# EAGLE library part EPF10K200-BGA672 (library altera)
EPF10K200 FLEX 10K family
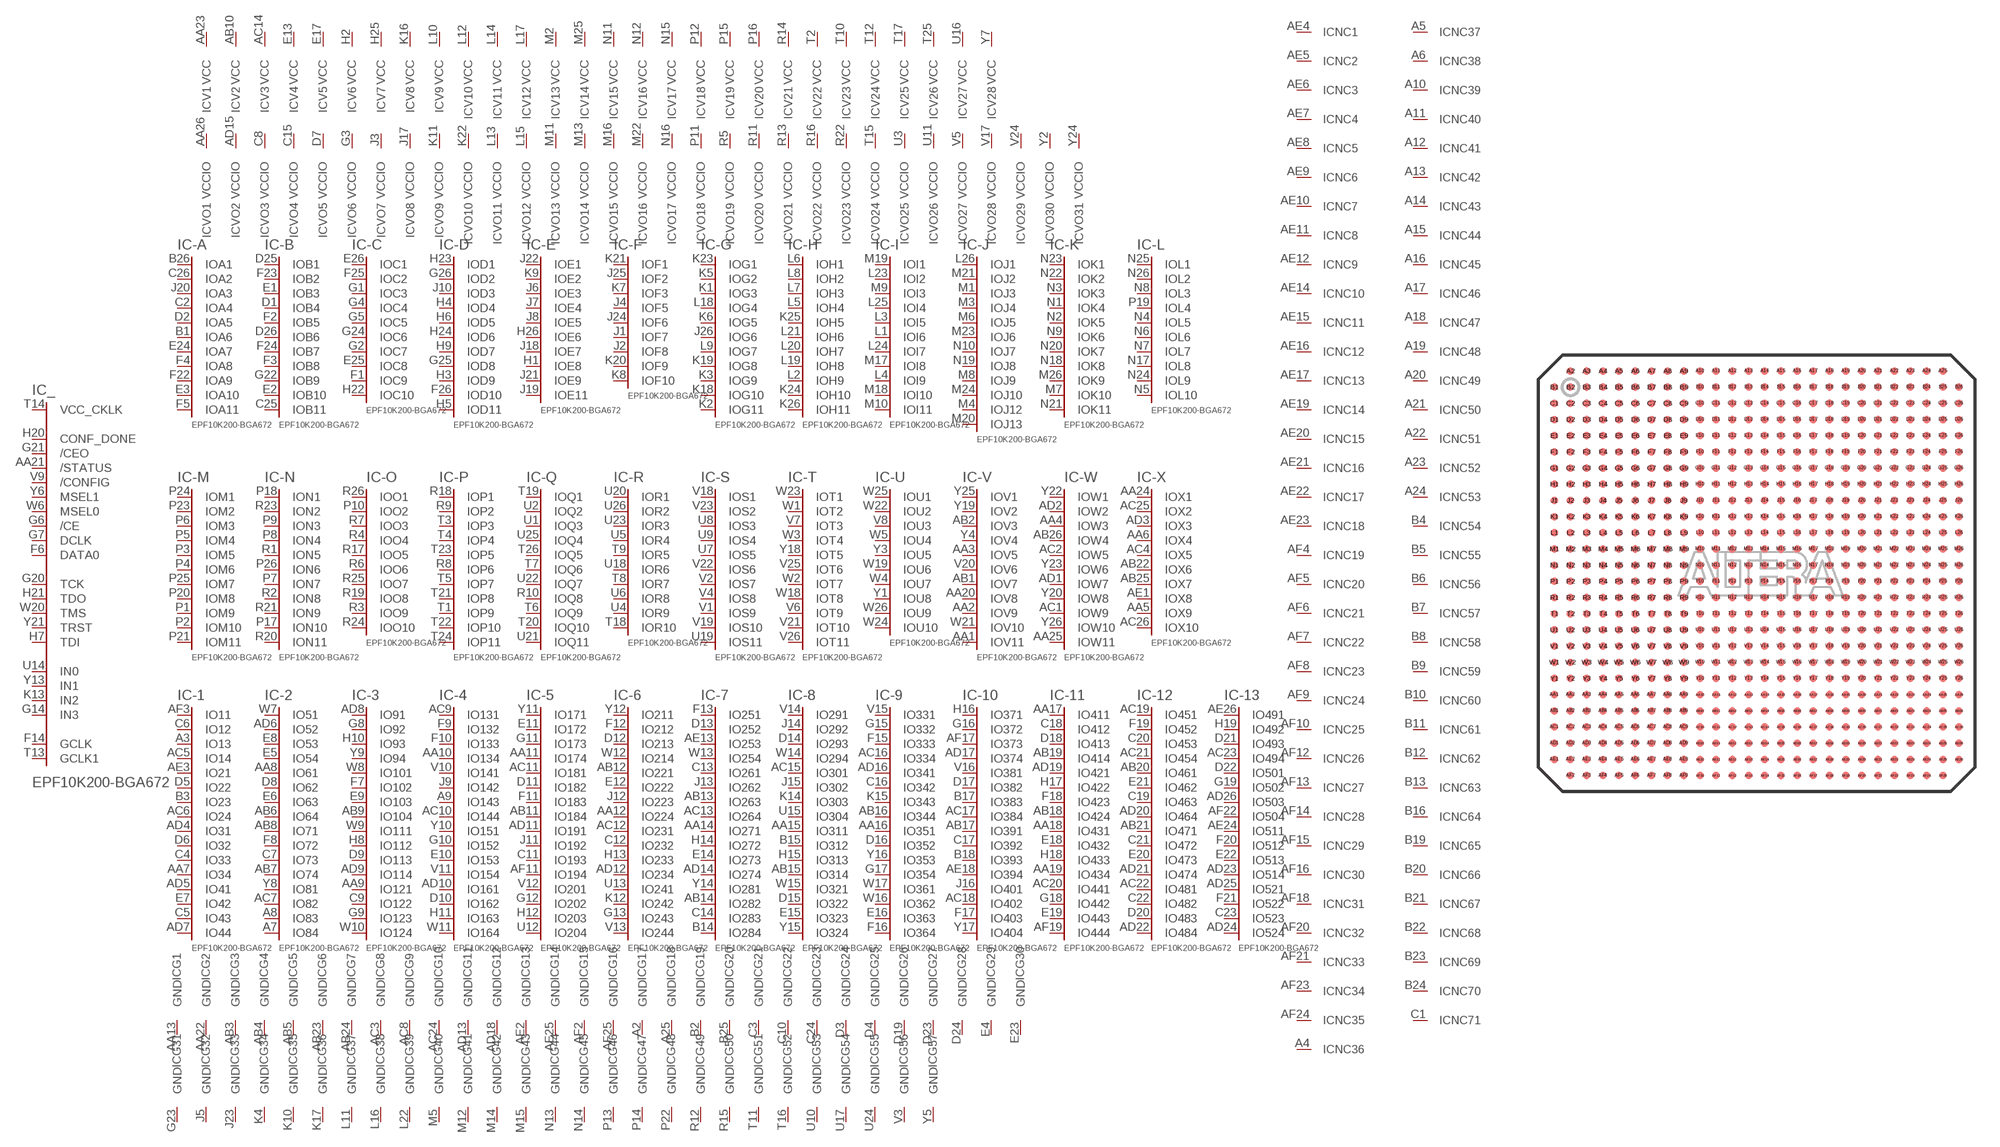
[diagram p34: symbol with the pads of FBGA672; footprint FBGA672]

Designator prefix IC; gates _=K200-CTR -A=A11-672 -B=B11-672 -C=C10-672 -D=D11-672 -E=E11-672 -F=F10-672 -G=G11-672 -H=H11-672 -I=I11-672 -J=J13-672 -K=K11-672 -L=L10-672 -M=M11-672 -N=N11-672 -O=O10-672 -P=P11-672 -Q=Q11-672 -R=R10-672 -S=S11-672 -T=T11-672 -U=U10-672 -V=V11-672 -W=W11-672 -X=X10-672 -1=IO44 -2=IO84 -3=IO124 -4=IO164 -5=IO204 -6=IO244 -7=IO284 -8=IO324 -9=IO364 -10=IO404 -11=IO444 -12=IO484 -13=IO524 G1=GND G2=GND G3=GND G4=GND G5=GND G6=GND G7=GND G8=GND G9=GND G10=GND G11=GND G12=GND G13=GND G14=GND G15=GND G16=GND G17=GND G18=GND G19=GND G20=GND G21=GND G22=GND G23=GND G24=GND G25=GND G26=GND G27=GND G28=GND G29=GND G30=GND G31=GND G32=GND G33=GND G34=GND G35=GND G36=GND G37=GND G38=GND G39=GND G40=GND G41=GND G42=GND G43=GND G44=GND G45=GND G46=GND G47=GND G48=GND G49=GND G50=GND G51=GND G52=GND G53=GND G54=GND G55=GND G56=GND G57=GND NC1=NC NC2=NC NC3=NC NC4=NC NC5=NC NC6=NC NC7=NC NC8=NC NC9=NC NC10=NC NC11=NC NC12=NC NC13=NC NC14=NC NC15=NC NC16=NC NC17=NC NC18=NC NC19=NC NC20=NC NC21=NC NC22=NC NC23=NC NC24=NC NC25=NC NC26=NC NC27=NC NC28=NC NC29=NC NC30=NC NC31=NC NC32=NC NC33=NC NC34=NC NC35=NC NC36=NC NC37=NC NC38=NC NC39=NC NC40=NC NC41=NC NC42=NC NC43=NC NC44=NC NC45=NC NC46=NC NC47=NC NC48=NC NC49=NC NC50=NC NC51=NC NC52=NC NC53=NC NC54=NC NC55=NC NC56=NC NC57=NC NC58=NC NC59=NC NC60=NC NC61=NC NC62=NC NC63=NC NC64=NC NC65=NC NC66=NC NC67=NC NC68=NC NC69=NC NC70=NC NC71=NC V1=VCCINT V2=VCCINT V3=VCCINT V4=VCCINT V5=VCCINT V6=VCCINT V7=VCCINT V8=VCCINT V9=VCCINT V10=VCCINT V11=VCCINT V12=VCCINT V13=VCCINT V14=VCCINT V15=VCCINT V16=VCCINT V17=VCCINT V18=VCCINT V19=VCCINT V20=VCCINT V21=VCCINT V22=VCCINT V23=VCCINT V24=VCCINT V25=VCCINT V26=VCCINT V27=VCCINT V28=VCCINT VO1=VCCIO VO2=VCCIO VO3=VCCIO VO4=VCCIO VO5=VCCIO VO6=VCCIO VO7=VCCIO VO8=VCCIO VO9=VCCIO VO10=VCCIO VO11=VCCIO VO12=VCCIO VO13=VCCIO VO14=VCCIO VO15=VCCIO VO16=VCCIO VO17=VCCIO VO18=VCCIO VO19=VCCIO VO20=VCCIO VO21=VCCIO VO22=VCCIO VO23=VCCIO VO24=VCCIO VO25=VCCIO VO26=VCCIO VO27=VCCIO VO28=VCCIO VO29=VCCIO VO30=VCCIO VO31=VCCIO

## EPF10K200-BGA672  [FBGA672]
A2  G17:GND  pwr
A3  -1:IO13
A4  NC36:NC  nc
A5  NC37:NC  nc
A6  NC38:NC  nc
A7  -2:IO84
A8  -2:IO83
A9  -4:IO143
A10  NC39:NC  nc
A11  NC40:NC  nc
A12  NC41:NC  nc
A13  NC42:NC  nc
A14  NC43:NC  nc
A15  NC44:NC  nc
A16  NC45:NC  nc
A17  NC46:NC  nc
A18  NC47:NC  nc
A19  NC48:NC  nc
A20  NC49:NC  nc
A21  NC50:NC  nc
A22  NC51:NC  nc
A23  NC52:NC  nc
A24  NC53:NC  nc
A25  G18:GND  pwr
AA1  -V:IOV11
AA2  -V:IOV9
AA3  -V:IOV5
AA4  -W:IOW3
AA5  -X:IOX9
AA6  -X:IOX4
AA7  -1:IO34
AA8  -2:IO61
AA9  -3:IO121
AA10  -4:IO134
AA11  -5:IO174
AA12  -6:IO224
AA13  G1:GND  pwr
AA14  -7:IO271
AA15  -8:IO311
AA16  -9:IO351
AA17  -11:IO411
AA18  -11:IO431
AA19  -11:IO434
AA20  -V:IOV8
AA21  _:/STATUS  in
AA22  G2:GND  pwr
AA23  V1:VCC  pwr
AA24  -X:IOX1
AA25  -W:IOW11
AA26  VO1:VCCIO  pwr
AB1  -V:IOV7
AB2  -V:IOV3
AB3  G3:GND  pwr
AB4  G4:GND  pwr
AB5  G5:GND  pwr
AB6  -2:IO64
AB7  -2:IO74
AB8  -2:IO71
AB9  -3:IO104
AB10  V2:VCC  pwr
AB11  -5:IO184
AB12  -6:IO221
AB13  -7:IO263
AB14  -7:IO282
AB15  -8:IO314
AB16  -9:IO344
AB17  -10:IO391
AB18  -11:IO424
AB19  -11:IO414
AB20  -12:IO461
AB21  -12:IO471
AB22  -X:IOX6
AB23  G6:GND  pwr
AB24  G7:GND  pwr
AB25  -X:IOX7
AB26  -W:IOW4
AC1  -W:IOW9
AC2  -W:IOW5
AC3  G8:GND  pwr
AC4  -X:IOX5
AC5  -1:IO14
AC6  -1:IO24
AC7  -2:IO82
AC8  G9:GND  pwr
AC9  -4:IO131
AC10  -4:IO144
AC11  -5:IO181
AC12  -6:IO231
AC13  -7:IO264
AC14  V3:VCC  pwr
AC15  -8:IO301
AC16  -9:IO334
AC17  -10:IO384
AC18  -10:IO402
AC19  -12:IO451
AC20  -11:IO441
AC21  -12:IO454
AC22  -12:IO481
AC23  -13:IO494
AC24  G10:GND  pwr
AC25  -X:IOX2
AC26  -X:IOX10
AD1  -W:IOW7
AD2  -W:IOW2
AD3  -X:IOX3
AD4  -1:IO31
AD5  -1:IO41
AD6  -2:IO52
AD7  -1:IO44
AD8  -3:IO91
AD9  -3:IO114
AD10  -4:IO161
AD11  -5:IO191
AD12  -6:IO234
AD13  G11:GND  pwr
AD14  -7:IO274
AD15  VO2:VCCIO  pwr
AD16  -9:IO341
AD17  -10:IO374
AD18  G12:GND  pwr
AD19  -11:IO421
AD20  -12:IO464
AD21  -12:IO474
AD22  -12:IO484
AD23  -13:IO514
AD24  -13:IO524
AD25  -13:IO521
AD26  -13:IO503
AE1  -X:IOX8
AE2  G13:GND  pwr
AE3  -1:IO21
AE4  NC1:NC  nc
AE5  NC2:NC  nc
AE6  NC3:NC  nc
AE7  NC4:NC  nc
AE8  NC5:NC  nc
AE9  NC6:NC  nc
AE10  NC7:NC  nc
AE11  NC8:NC  nc
AE12  NC9:NC  nc
AE13  -7:IO253
AE14  NC10:NC  nc
AE15  NC11:NC  nc
AE16  NC12:NC  nc
AE17  NC13:NC  nc
AE18  -10:IO394
AE19  NC14:NC  nc
AE20  NC15:NC  nc
AE21  NC16:NC  nc
AE22  NC17:NC  nc
AE23  NC18:NC  nc
AE24  -13:IO511
AE25  G14:GND  pwr
AE26  -13:IO491
AF2  G15:GND  pwr
AF3  -1:IO11
AF4  NC19:NC  nc
AF5  NC20:NC  nc
AF6  NC21:NC  nc
AF7  NC22:NC  nc
AF8  NC23:NC  nc
AF9  NC24:NC  nc
AF10  NC25:NC  nc
AF11  -5:IO194
AF12  NC26:NC  nc
AF13  NC27:NC  nc
AF14  NC28:NC  nc
AF15  NC29:NC  nc
AF16  NC30:NC  nc
AF17  -10:IO373
AF18  NC31:NC  nc
AF19  -11:IO444
AF20  NC32:NC  nc
AF21  NC33:NC  nc
AF22  -13:IO504
AF23  NC34:NC  nc
AF24  NC35:NC  nc
AF25  G16:GND  pwr
B1  -A:IOA6
B2  G19:GND  pwr
B3  -1:IO23
B4  NC54:NC  nc
B5  NC55:NC  nc
B6  NC56:NC  nc
B7  NC57:NC  nc
B8  NC58:NC  nc
B9  NC59:NC  nc
B10  NC60:NC  nc
B11  NC61:NC  nc
B12  NC62:NC  nc
B13  NC63:NC  nc
B14  -7:IO284
B15  -8:IO312
B16  NC64:NC  nc
B17  -10:IO383
B18  -10:IO393
B19  NC65:NC  nc
B20  NC66:NC  nc
B21  NC67:NC  nc
B22  NC68:NC  nc
B23  NC69:NC  nc
B24  NC70:NC  nc
B25  G20:GND  pwr
B26  -A:IOA1
C1  NC71:NC  nc
C2  -A:IOA4
C3  G21:GND  pwr
C4  -1:IO33
C5  -1:IO43
C6  -1:IO12
C7  -2:IO73
C8  VO3:VCCIO  pwr
C9  -3:IO122
C10  G22:GND  pwr
C11  -5:IO193
C12  -6:IO232
C13  -7:IO261
C14  -7:IO283
C15  VO4:VCCIO  pwr
C16  -9:IO342
C17  -10:IO392
C18  -11:IO412
C19  -12:IO463
C20  -12:IO453
C21  -12:IO472
C22  -12:IO482
C23  -13:IO523
C24  G23:GND  pwr
C25  -B:IOB11
C26  -A:IOA2
D1  -B:IOB4
D2  -A:IOA5
D3  G24:GND  pwr
D4  G25:GND  pwr
D5  -1:IO22
D6  -1:IO32
D7  VO5:VCCIO  pwr
D8  -2:IO62
D9  -3:IO113
D10  -4:IO162
D11  -5:IO182
D12  -6:IO213
D13  -7:IO252
D14  -8:IO293
D15  -8:IO322
D16  -9:IO352
D17  -10:IO382
D18  -11:IO413
D19  G26:GND  pwr
D20  -12:IO483
D21  -13:IO493
D22  -13:IO501
D23  G27:GND  pwr
D24  G28:GND  pwr
D25  -B:IOB1
D26  -B:IOB6
E1  -B:IOB3
E2  -B:IOB10
E3  -A:IOA10
E4  G29:GND  pwr
E5  -2:IO54
E6  -2:IO63
E7  -1:IO42
E8  -2:IO53
E9  -3:IO103
E10  -4:IO153
E11  -5:IO172
E12  -6:IO222
E13  V4:VCC  pwr
E14  -7:IO273
E15  -8:IO323
E16  -9:IO363
E17  V5:VCC  pwr
E18  -11:IO432
E19  -11:IO443
E20  -12:IO473
E21  -12:IO462
E22  -13:IO513
E23  G30:GND  pwr
E24  -A:IOA7
E25  -C:IOC8
E26  -C:IOC1
F1  -C:IOC9
F2  -B:IOB5
F3  -B:IOB8
F4  -A:IOA8
F5  -A:IOA11
F6  _:DATA0  in
F7  -3:IO102
F8  -2:IO72
F9  -4:IO132
F10  -4:IO133
F11  -5:IO183
F12  -6:IO212
F13  -7:IO251
F14  _:GCLK  in
F15  -9:IO333
F16  -9:IO364
F17  -10:IO403
F18  -11:IO423
F19  -12:IO452
F20  -13:IO512
F21  -13:IO522
F22  -A:IOA9
F23  -B:IOB2
F24  -B:IOB7
F25  -C:IOC2
F26  -D:IOD10
G1  -C:IOC3
G2  -C:IOC7
G3  VO6:VCCIO  pwr
G4  -C:IOC4
G5  -C:IOC5
G6  _:/CE  in
G7  _:DCLK  in
G8  -3:IO92
G9  -3:IO123
G10  -4:IO152
G11  -5:IO173
G12  -5:IO202
G13  -6:IO243
G14  _:IN3  in
G15  -9:IO332
G16  -10:IO372
G17  -9:IO354
G18  -11:IO442
G19  -13:IO502
G20  _:TCK
G21  _:/CEO  in
G22  -B:IOB9
G23  G31:GND  pwr
G24  -C:IOC6
G25  -D:IOD8
G26  -D:IOD2
H1  -E:IOE8
H2  V6:VCC  pwr
H3  -D:IOD9
H4  -D:IOD4
H5  -D:IOD11
H6  -D:IOD5
H7  _:TDI
H8  -3:IO112
H9  -D:IOD7
H10  -3:IO93
H11  -4:IO163
H12  -5:IO203
H13  -6:IO233
H14  -7:IO272
H15  -8:IO313
H16  -10:IO371
H17  -11:IO422
H18  -11:IO433
H19  -13:IO492
H20  _:CONF_DONE  in
H21  _:TDO
H22  -C:IOC10
H23  -D:IOD1
H24  -D:IOD6
H25  V7:VCC  pwr
H26  -E:IOE6
J1  -F:IOF7
J2  -F:IOF8
J3  VO7:VCCIO  pwr
J4  -F:IOF5
J5  G32:GND  pwr
J6  -E:IOE3
J7  -E:IOE4
J8  -E:IOE5
J9  -4:IO142
J10  -D:IOD3
J11  -5:IO192
J12  -6:IO223
J13  -7:IO262
J14  -8:IO292
J15  -8:IO302
J16  -10:IO401
J17  VO8:VCCIO  pwr
J18  -E:IOE7
J19  -E:IOE11
J20  -A:IOA3
J21  -E:IOE9
J22  -E:IOE1
J23  G33:GND  pwr
J24  -F:IOF6
J25  -F:IOF2
J26  -G:IOG6
K1  -G:IOG3
K2  -G:IOG11
K3  -G:IOG9
K4  G34:GND  pwr
K5  -G:IOG2
K6  -G:IOG5
K7  -F:IOF3
K8  -F:IOF10
K9  -E:IOE2
K10  G35:GND  pwr
K11  VO9:VCCIO  pwr
K12  -6:IO242
K13  _:IN2  in
K14  -8:IO303
K15  -9:IO343
K16  V8:VCC  pwr
K17  G36:GND  pwr
K18  -G:IOG10
K19  -G:IOG8
K20  -F:IOF9
K21  -F:IOF1
K22  VO10:VCCIO  pwr
K23  -G:IOG1
K24  -H:IOH10
K25  -H:IOH5
K26  -H:IOH11
L1  -I:IOI6
L2  -H:IOH9
L3  -I:IOI5
L4  -I:IOI9
L5  -H:IOH4
L6  -H:IOH1
L7  -H:IOH3
L8  -H:IOH2
L9  -G:IOG7
L10  V9:VCC  pwr
L11  G37:GND  pwr
L12  V10:VCC  pwr
L13  VO11:VCCIO  pwr
L14  V11:VCC  pwr
L15  VO12:VCCIO  pwr
L16  G38:GND  pwr
L17  V12:VCC  pwr
L18  -G:IOG4
L19  -H:IOH8
L20  -H:IOH7
L21  -H:IOH6
L22  G39:GND  pwr
L23  -I:IOI2
L24  -I:IOI7
L25  -I:IOI4
L26  -J:IOJ1
M1  -J:IOJ3
M2  V13:VCC  pwr
M3  -J:IOJ4
M4  -J:IOJ12
M5  G40:GND  pwr
M6  -J:IOJ5
M7  -K:IOK10
M8  -J:IOJ9
M9  -I:IOI3
M10  -I:IOI11
M11  VO13:VCCIO  pwr
M12  G41:GND  pwr
M13  VO14:VCCIO  pwr
M14  G42:GND  pwr
M15  G43:GND  pwr
M16  VO15:VCCIO  pwr
M17  -I:IOI8
M18  -I:IOI10
M19  -I:IOI1
M20  -J:IOJ13
M21  -J:IOJ2
M22  VO16:VCCIO  pwr
M23  -J:IOJ6
M24  -J:IOJ10
M25  V14:VCC  pwr
M26  -K:IOK9
N1  -K:IOK4
N2  -K:IOK5
N3  -K:IOK3
N4  -L:IOL5
N5  -L:IOL10
N6  -L:IOL6
N7  -L:IOL7
N8  -L:IOL3
N9  -K:IOK6
N10  -J:IOJ7
N11  V15:VCC  pwr
N12  V16:VCC  pwr
N13  G44:GND  pwr
N14  G45:GND  pwr
N15  V17:VCC  pwr
N16  VO17:VCCIO  pwr
N17  -L:IOL8
N18  -K:IOK8
N19  -J:IOJ8
N20  -K:IOK7
N21  -K:IOK11
N22  -K:IOK2
N23  -K:IOK1
N24  -L:IOL9
N25  -L:IOL1
N26  -L:IOL2
P1  -M:IOM9
P2  -M:IOM10
P3  -M:IOM5
P4  -M:IOM6
P5  -M:IOM4
P6  -M:IOM3
P7  -N:ION7
P8  -N:ION4
P9  -N:ION3
P10  -O:IOO2
P11  VO18:VCCIO  pwr
P12  V18:VCC  pwr
P13  G46:GND  pwr
P14  G47:GND  pwr
P15  V19:VCC  pwr
P16  V20:VCC  pwr
P17  -N:ION10
P18  -N:ION1
P19  -L:IOL4
P20  -M:IOM8
P21  -M:IOM11
P22  G48:GND  pwr
P23  -M:IOM2
P24  -M:IOM1
P25  -M:IOM7
P26  -N:ION6
R1  -N:ION5
R2  -N:ION8
R3  -O:IOO9
R4  -O:IOO4
R5  VO19:VCCIO  pwr
R6  -O:IOO6
R7  -O:IOO3
R8  -P:IOP6
R9  -P:IOP2
R10  -Q:IOQ8
R11  VO20:VCCIO  pwr
R12  G49:GND  pwr
R13  VO21:VCCIO  pwr
R14  V21:VCC  pwr
R15  G50:GND  pwr
R16  VO22:VCCIO  pwr
R17  -O:IOO5
R18  -P:IOP1
R19  -O:IOO8
R20  -N:ION11
R21  -N:ION9
R22  VO23:VCCIO  pwr
R23  -N:ION2
R24  -O:IOO10
R25  -O:IOO7
R26  -O:IOO1
T1  -P:IOP9
T2  V22:VCC  pwr
T3  -P:IOP3
T4  -P:IOP4
T5  -P:IOP7
T6  -Q:IOQ9
T7  -Q:IOQ6
T8  -R:IOR7
T9  -R:IOR5
T10  V23:VCC  pwr
T11  G51:GND  pwr
T12  V24:VCC  pwr
T13  _:GCLK1  in
T14  _:VCC_CKLK  pas
T15  VO24:VCCIO  pwr
T16  G52:GND  pwr
T17  V25:VCC  pwr
T18  -R:IOR10
T19  -Q:IOQ1
T20  -Q:IOQ10
T21  -P:IOP8
T22  -P:IOP10
T23  -P:IOP5
T24  -P:IOP11
T25  V26:VCC  pwr
T26  -Q:IOQ5
U1  -Q:IOQ3
U2  -Q:IOQ2
U3  VO25:VCCIO  pwr
U4  -R:IOR9
U5  -R:IOR4
U6  -R:IOR8
U7  -S:IOS5
U8  -S:IOS3
U9  -S:IOS4
U10  G53:GND  pwr
U11  VO26:VCCIO  pwr
U12  -5:IO204
U13  -6:IO241
U14  _:IN0  in
U15  -8:IO304
U16  V27:VCC  pwr
U17  G54:GND  pwr
U18  -R:IOR6
U19  -S:IOS11
U20  -R:IOR1
U21  -Q:IOQ11
U22  -Q:IOQ7
U23  -R:IOR3
U24  G55:GND  pwr
U25  -Q:IOQ4
U26  -R:IOR2
V1  -S:IOS9
V2  -S:IOS7
V3  G56:GND  pwr
V4  -S:IOS8
V5  VO27:VCCIO  pwr
V6  -T:IOT9
V7  -T:IOT3
V8  -U:IOU3
V9  _:/CONFIG  in
V10  -4:IO141
V11  -4:IO154
V12  -5:IO201
V13  -6:IO244
V14  -8:IO291
V15  -9:IO331
V16  -10:IO381
V17  VO28:VCCIO  pwr
V18  -S:IOS1
V19  -S:IOS10
V20  -V:IOV6
V21  -T:IOT10
V22  -S:IOS6
V23  -S:IOS2
V24  VO29:VCCIO  pwr
V25  -T:IOT6
V26  -T:IOT11
W1  -T:IOT2
W2  -T:IOT7
W3  -T:IOT4
W4  -U:IOU7
W5  -U:IOU4
W6  _:MSEL0  in
W7  -2:IO51
W8  -3:IO101
W9  -3:IO111
W10  -3:IO124
W11  -4:IO164
W12  -6:IO214
W13  -7:IO254
W14  -8:IO294
W15  -8:IO321
W16  -9:IO362
W17  -9:IO361
W18  -T:IOT8
W19  -U:IOU6
W20  _:TMS
W21  -V:IOV10
W22  -U:IOU2
W23  -T:IOT1
W24  -U:IOU10
W25  -U:IOU1
W26  -U:IOU9
Y1  -U:IOU8
Y2  VO30:VCCIO  pwr
Y3  -U:IOU5
Y4  -V:IOV4
Y5  G57:GND  pwr
Y6  _:MSEL1  in
Y7  V28:VCC  pwr
Y8  -2:IO81
Y9  -3:IO94
Y10  -4:IO151
Y11  -5:IO171
Y12  -6:IO211
Y13  _:IN1  in
Y14  -7:IO281
Y15  -8:IO324
Y16  -9:IO353
Y17  -10:IO404
Y18  -T:IOT5
Y19  -V:IOV2
Y20  -W:IOW8
Y21  _:TRST
Y22  -W:IOW1
Y23  -W:IOW6
Y24  VO31:VCCIO  pwr
Y25  -V:IOV1
Y26  -W:IOW10

## Footprint FBGA672 (pad centres in mm)
Ball Grid Array
smd 0.45 x 0.45: A2 -11.5,12.5; A3 -10.5,12.5; A4 -9.5,12.5; A5 -8.5,12.5; A6 -7.5,12.5; A7 -6.5,12.5; A8 -5.5,12.5; A9 -4.5,12.5; A10 -3.5,12.5; A11 -2.5,12.5; A12 -1.5,12.5; A13 -0.5,12.5; A14 0.5,12.5; A15 1.5,12.5; A16 2.5,12.5; A17 3.5,12.5; A18 4.5,12.5; A19 5.5,12.5; A20 6.5,12.5; A21 7.5,12.5; A22 8.5,12.5; A23 9.5,12.5; A24 10.5,12.5; A25 11.5,12.5; AA1 -12.5,-7.5; AA2 -11.5,-7.5; AA3 -10.5,-7.5; AA4 -9.5,-7.5; AA5 -8.5,-7.5; AA6 -7.5,-7.5; AA7 -6.5,-7.5; AA8 -5.5,-7.5; AA9 -4.5,-7.5; AA10 -3.5,-7.5; AA11 -2.5,-7.5; AA12 -1.5,-7.5; AA13 -0.5,-7.5; AA14 0.5,-7.5; AA15 1.5,-7.5; AA16 2.5,-7.5; AA17 3.5,-7.5; AA18 4.5,-7.5; AA19 5.5,-7.5; AA20 6.5,-7.5; AA21 7.5,-7.5; AA22 8.5,-7.5; AA23 9.5,-7.5; AA24 10.5,-7.5; AA25 11.5,-7.5; AA26 12.5,-7.5; AB1 -12.5,-8.5; AB2 -11.5,-8.5; AB3 -10.5,-8.5; AB4 -9.5,-8.5; AB5 -8.5,-8.5; AB6 -7.5,-8.5; AB7 -6.5,-8.5; AB8 -5.5,-8.5; AB9 -4.5,-8.5; AB10 -3.5,-8.5; AB11 -2.5,-8.5; AB12 -1.5,-8.5; AB13 -0.5,-8.5; AB14 0.5,-8.5; AB15 1.5,-8.5; AB16 2.5,-8.5; AB17 3.5,-8.5; AB18 4.5,-8.5; AB19 5.5,-8.5; AB20 6.5,-8.5; AB21 7.5,-8.5; AB22 8.5,-8.5; AB23 9.5,-8.5; AB24 10.5,-8.5; AB25 11.5,-8.5; AB26 12.5,-8.5; AC1 -12.5,-9.5; AC2 -11.5,-9.5; AC3 -10.5,-9.5; AC4 -9.5,-9.5; AC5 -8.5,-9.5; AC6 -7.5,-9.5; AC7 -6.5,-9.5; AC8 -5.5,-9.5; AC9 -4.5,-9.5; AC10 -3.5,-9.5; AC11 -2.5,-9.5; AC12 -1.5,-9.5; AC13 -0.5,-9.5; AC14 0.5,-9.5; AC15 1.5,-9.5; AC16 2.5,-9.5; AC17 3.5,-9.5; AC18 4.5,-9.5; AC19 5.5,-9.5; AC20 6.5,-9.5; AC21 7.5,-9.5; AC22 8.5,-9.5; AC23 9.5,-9.5; AC24 10.5,-9.5; AC25 11.5,-9.5; AC26 12.5,-9.5; AD1 -12.5,-10.5; AD2 -11.5,-10.5; AD3 -10.5,-10.5; AD4 -9.5,-10.5; AD5 -8.5,-10.5; AD6 -7.5,-10.5; AD7 -6.5,-10.5; AD8 -5.5,-10.5; AD9 -4.5,-10.5; AD10 -3.5,-10.5; AD11 -2.5,-10.5; AD12 -1.5,-10.5; AD13 -0.5,-10.5; AD14 0.5,-10.5; AD15 1.5,-10.5; AD16 2.5,-10.5; AD17 3.5,-10.5; AD18 4.5,-10.5; AD19 5.5,-10.5; AD20 6.5,-10.5; AD21 7.5,-10.5; AD22 8.5,-10.5; AD23 9.5,-10.5; AD24 10.5,-10.5; AD25 11.5,-10.5; AD26 12.5,-10.5; AE1 -12.5,-11.5; AE2 -11.5,-11.5; AE3 -10.5,-11.5; AE4 -9.5,-11.5; AE5 -8.5,-11.5; AE6 -7.5,-11.5; AE7 -6.5,-11.5; AE8 -5.5,-11.5; AE9 -4.5,-11.5; AE10 -3.5,-11.5; AE11 -2.5,-11.5; AE12 -1.5,-11.5; AE13 -0.5,-11.5; AE14 0.5,-11.5; AE15 1.5,-11.5; AE16 2.5,-11.5; AE17 3.5,-11.5; AE18 4.5,-11.5; AE19 5.5,-11.5; AE20 6.5,-11.5; AE21 7.5,-11.5; AE22 8.5,-11.5; AE23 9.5,-11.5; AE24 10.5,-11.5; AE25 11.5,-11.5; AE26 12.5,-11.5; AF2 -11.5,-12.5; AF3 -10.5,-12.5; AF4 -9.5,-12.5; AF5 -8.5,-12.5; AF6 -7.5,-12.5; AF7 -6.5,-12.5; AF8 -5.5,-12.5; AF9 -4.5,-12.5; AF10 -3.5,-12.5; AF11 -2.5,-12.5; AF12 -1.5,-12.5; AF13 -0.5,-12.5; AF14 0.5,-12.5; AF15 1.5,-12.5; AF16 2.5,-12.5; AF17 3.5,-12.5; AF18 4.5,-12.5; AF19 5.5,-12.5; AF20 6.5,-12.5; AF21 7.5,-12.5; AF22 8.5,-12.5; AF23 9.5,-12.5; AF24 10.5,-12.5; AF25 11.5,-12.5; B1 -12.5,11.5; B2 -11.5,11.5; B3 -10.5,11.5; B4 -9.5,11.5; B5 -8.5,11.5; B6 -7.5,11.5; B7 -6.5,11.5; B8 -5.5,11.5; B9 -4.5,11.5; B10 -3.5,11.5; B11 -2.5,11.5; B12 -1.5,11.5; B13 -0.5,11.5; B14 0.5,11.5; B15 1.5,11.5; B16 2.5,11.5; B17 3.5,11.5; B18 4.5,11.5; B19 5.5,11.5; B20 6.5,11.5; B21 7.5,11.5; B22 8.5,11.5; B23 9.5,11.5; B24 10.5,11.5; B25 11.5,11.5; B26 12.5,11.5; C1 -12.5,10.5; C2 -11.5,10.5; C3 -10.5,10.5; C4 -9.5,10.5; C5 -8.5,10.5; C6 -7.5,10.5; C7 -6.5,10.5; C8 -5.5,10.5; C9 -4.5,10.5; C10 -3.5,10.5; C11 -2.5,10.5; C12 -1.5,10.5; C13 -0.5,10.5; C14 0.5,10.5; C15 1.5,10.5; C16 2.5,10.5; C17 3.5,10.5; C18 4.5,10.5; C19 5.5,10.5; C20 6.5,10.5; C21 7.5,10.5; C22 8.5,10.5; C23 9.5,10.5; C24 10.5,10.5; C25 11.5,10.5; C26 12.5,10.5; D1 -12.5,9.5; D2 -11.5,9.5; D3 -10.5,9.5; D4 -9.5,9.5; D5 -8.5,9.5; D6 -7.5,9.5; D7 -6.5,9.5; D8 -5.5,9.5; D9 -4.5,9.5; D10 -3.5,9.5; D11 -2.5,9.5; D12 -1.5,9.5; D13 -0.5,9.5; D14 0.5,9.5; D15 1.5,9.5; D16 2.5,9.5; D17 3.5,9.5; D18 4.5,9.5; D19 5.5,9.5; D20 6.5,9.5; D21 7.5,9.5; D22 8.5,9.5; D23 9.5,9.5; D24 10.5,9.5; D25 11.5,9.5; D26 12.5,9.5; E1 -12.5,8.5; E2 -11.5,8.5; E3 -10.5,8.5; E4 -9.5,8.5; E5 -8.5,8.5; E6 -7.5,8.5; E7 -6.5,8.5; E8 -5.5,8.5; E9 -4.5,8.5; E10 -3.5,8.5; E11 -2.5,8.5; E12 -1.5,8.5; E13 -0.5,8.5; E14 0.5,8.5; E15 1.5,8.5; E16 2.5,8.5; E17 3.5,8.5; E18 4.5,8.5; E19 5.5,8.5; E20 6.5,8.5; E21 7.5,8.5; E22 8.5,8.5; E23 9.5,8.5; E24 10.5,8.5; E25 11.5,8.5; E26 12.5,8.5; F1 -12.5,7.5; F2 -11.5,7.5; F3 -10.5,7.5; F4 -9.5,7.5; F5 -8.5,7.5; F6 -7.5,7.5; F7 -6.5,7.5; F8 -5.5,7.5; F9 -4.5,7.5; F10 -3.5,7.5; F11 -2.5,7.5; F12 -1.5,7.5; F13 -0.5,7.5; F14 0.5,7.5; F15 1.5,7.5; F16 2.5,7.5; F17 3.5,7.5; F18 4.5,7.5; F19 5.5,7.5; F20 6.5,7.5; F21 7.5,7.5; F22 8.5,7.5; F23 9.5,7.5; F24 10.5,7.5; F25 11.5,7.5; F26 12.5,7.5; G1 -12.5,6.5; G2 -11.5,6.5; G3 -10.5,6.5; G4 -9.5,6.5; G5 -8.5,6.5; G6 -7.5,6.5; G7 -6.5,6.5; G8 -5.5,6.5; G9 -4.5,6.5; G10 -3.5,6.5; G11 -2.5,6.5; G12 -1.5,6.5; G13 -0.5,6.5; G14 0.5,6.5; G15 1.5,6.5; G16 2.5,6.5; G17 3.5,6.5; G18 4.5,6.5; G19 5.5,6.5; G20 6.5,6.5; G21 7.5,6.5; G22 8.5,6.5; G23 9.5,6.5; G24 10.5,6.5; G25 11.5,6.5; G26 12.5,6.5; H1 -12.5,5.5; H2 -11.5,5.5; H3 -10.5,5.5; H4 -9.5,5.5; H5 -8.5,5.5; H6 -7.5,5.5; H7 -6.5,5.5; H8 -5.5,5.5; H9 -4.5,5.5; H10 -3.5,5.5; H11 -2.5,5.5; H12 -1.5,5.5; H13 -0.5,5.5; H14 0.5,5.5; H15 1.5,5.5; H16 2.5,5.5; H17 3.5,5.5; H18 4.5,5.5; H19 5.5,5.5; H20 6.5,5.5; H21 7.5,5.5; H22 8.5,5.5; H23 9.5,5.5; H24 10.5,5.5; H25 11.5,5.5; H26 12.5,5.5; J1 -12.5,4.5; J2 -11.5,4.5; J3 -10.5,4.5; J4 -9.5,4.5; J5 -8.5,4.5; J6 -7.5,4.5; J7 -6.5,4.5; J8 -5.5,4.5; J9 -4.5,4.5; J10 -3.5,4.5; J11 -2.5,4.5; J12 -1.5,4.5; J13 -0.5,4.5; J14 0.5,4.5; J15 1.5,4.5; J16 2.5,4.5; J17 3.5,4.5; J18 4.5,4.5; J19 5.5,4.5; J20 6.5,4.5; J21 7.5,4.5; J22 8.5,4.5; J23 9.5,4.5; J24 10.5,4.5; J25 11.5,4.5; J26 12.5,4.5; K1 -12.5,3.5; K2 -11.5,3.5; K3 -10.5,3.5; K4 -9.5,3.5; K5 -8.5,3.5; K6 -7.5,3.5; K7 -6.5,3.5; K8 -5.5,3.5; K9 -4.5,3.5; K10 -3.5,3.5; K11 -2.5,3.5; K12 -1.5,3.5; K13 -0.5,3.5; K14 0.5,3.5; K15 1.5,3.5; K16 2.5,3.5; K17 3.5,3.5; K18 4.5,3.5; K19 5.5,3.5; K20 6.5,3.5; K21 7.5,3.5; K22 8.5,3.5; K23 9.5,3.5; K24 10.5,3.5; K25 11.5,3.5; K26 12.5,3.5; L1 -12.5,2.5; L2 -11.5,2.5; L3 -10.5,2.5; L4 -9.5,2.5; L5 -8.5,2.5; L6 -7.5,2.5; L7 -6.5,2.5; L8 -5.5,2.5; L9 -4.5,2.5; L10 -3.5,2.5; L11 -2.5,2.5; L12 -1.5,2.5; L13 -0.5,2.5; L14 0.5,2.5; L15 1.5,2.5; L16 2.5,2.5; L17 3.5,2.5; L18 4.5,2.5; L19 5.5,2.5; L20 6.5,2.5; L21 7.5,2.5; L22 8.5,2.5; L23 9.5,2.5; L24 10.5,2.5; L25 11.5,2.5; L26 12.5,2.5; M1 -12.5,1.5; M2 -11.5,1.5; M3 -10.5,1.5; M4 -9.5,1.5; M5 -8.5,1.5; M6 -7.5,1.5; M7 -6.5,1.5; M8 -5.5,1.5; M9 -4.5,1.5; M10 -3.5,1.5; M11 -2.5,1.5; M12 -1.5,1.5; M13 -0.5,1.5; M14 0.5,1.5; M15 1.5,1.5; M16 2.5,1.5; M17 3.5,1.5; M18 4.5,1.5; M19 5.5,1.5; M20 6.5,1.5; M21 7.5,1.5; M22 8.5,1.5; M23 9.5,1.5; M24 10.5,1.5; M25 11.5,1.5; M26 12.5,1.5; N1 -12.5,0.5; N2 -11.5,0.5; N3 -10.5,0.5; N4 -9.5,0.5; N5 -8.5,0.5; N6 -7.5,0.5; N7 -6.5,0.5; N8 -5.5,0.5; N9 -4.5,0.5; N10 -3.5,0.5; N11 -2.5,0.5; N12 -1.5,0.5; N13 -0.5,0.5; N14 0.5,0.5; N15 1.5,0.5; N16 2.5,0.5; N17 3.5,0.5; N18 4.5,0.5; N19 5.5,0.5; N20 6.5,0.5; N21 7.5,0.5; N22 8.5,0.5; N23 9.5,0.5; N24 10.5,0.5; N25 11.5,0.5; N26 12.5,0.5; P1 -12.5,-0.5; P2 -11.5,-0.5; P3 -10.5,-0.5; P4 -9.5,-0.5; P5 -8.5,-0.5; P6 -7.5,-0.5; P7 -6.5,-0.5; P8 -5.5,-0.5; P9 -4.5,-0.5; P10 -3.5,-0.5; P11 -2.5,-0.5; P12 -1.5,-0.5; P13 -0.5,-0.5; P14 0.5,-0.5; P15 1.5,-0.5; P16 2.5,-0.5; P17 3.5,-0.5; P18 4.5,-0.5; P19 5.5,-0.5; P20 6.5,-0.5; P21 7.5,-0.5; P22 8.5,-0.5; P23 9.5,-0.5; P24 10.5,-0.5; P25 11.5,-0.5; P26 12.5,-0.5; R1 -12.5,-1.5; R2 -11.5,-1.5; R3 -10.5,-1.5; R4 -9.5,-1.5; R5 -8.5,-1.5; R6 -7.5,-1.5; R7 -6.5,-1.5; R8 -5.5,-1.5; R9 -4.5,-1.5; R10 -3.5,-1.5; R11 -2.5,-1.5; R12 -1.5,-1.5; R13 -0.5,-1.5; R14 0.5,-1.5; R15 1.5,-1.5; R16 2.5,-1.5; R17 3.5,-1.5; R18 4.5,-1.5; R19 5.5,-1.5; R20 6.5,-1.5; R21 7.5,-1.5; R22 8.5,-1.5; R23 9.5,-1.5; R24 10.5,-1.5; R25 11.5,-1.5; R26 12.5,-1.5; T1 -12.5,-2.5; T2 -11.5,-2.5; T3 -10.5,-2.5; T4 -9.5,-2.5; T5 -8.5,-2.5; T6 -7.5,-2.5; T7 -6.5,-2.5; T8 -5.5,-2.5; T9 -4.5,-2.5; T10 -3.5,-2.5; T11 -2.5,-2.5; T12 -1.5,-2.5; T13 -0.5,-2.5; T14 0.5,-2.5; T15 1.5,-2.5; T16 2.5,-2.5; T17 3.5,-2.5; T18 4.5,-2.5; T19 5.5,-2.5; T20 6.5,-2.5; T21 7.5,-2.5; T22 8.5,-2.5; T23 9.5,-2.5; T24 10.5,-2.5; T25 11.5,-2.5; T26 12.5,-2.5; U1 -12.5,-3.5; U2 -11.5,-3.5; U3 -10.5,-3.5; U4 -9.5,-3.5; U5 -8.5,-3.5; U6 -7.5,-3.5; U7 -6.5,-3.5; U8 -5.5,-3.5; U9 -4.5,-3.5; U10 -3.5,-3.5; U11 -2.5,-3.5; U12 -1.5,-3.5; U13 -0.5,-3.5; U14 0.5,-3.5; U15 1.5,-3.5; U16 2.5,-3.5; U17 3.5,-3.5; U18 4.5,-3.5; U19 5.5,-3.5; U20 6.5,-3.5; U21 7.5,-3.5; U22 8.5,-3.5; U23 9.5,-3.5; U24 10.5,-3.5; U25 11.5,-3.5; U26 12.5,-3.5; V1 -12.5,-4.5; V2 -11.5,-4.5; V3 -10.5,-4.5; V4 -9.5,-4.5; V5 -8.5,-4.5; V6 -7.5,-4.5; V7 -6.5,-4.5; V8 -5.5,-4.5; V9 -4.5,-4.5; V10 -3.5,-4.5; V11 -2.5,-4.5; V12 -1.5,-4.5; V13 -0.5,-4.5; V14 0.5,-4.5; V15 1.5,-4.5; V16 2.5,-4.5; V17 3.5,-4.5; V18 4.5,-4.5; V19 5.5,-4.5; V20 6.5,-4.5; V21 7.5,-4.5; V22 8.5,-4.5; V23 9.5,-4.5; V24 10.5,-4.5; V25 11.5,-4.5; V26 12.5,-4.5; W1 -12.5,-5.5; W2 -11.5,-5.5; W3 -10.5,-5.5; W4 -9.5,-5.5; W5 -8.5,-5.5; W6 -7.5,-5.5; W7 -6.5,-5.5; W8 -5.5,-5.5; W9 -4.5,-5.5; W10 -3.5,-5.5; W11 -2.5,-5.5; W12 -1.5,-5.5; W13 -0.5,-5.5; W14 0.5,-5.5; W15 1.5,-5.5; W16 2.5,-5.5; W17 3.5,-5.5; W18 4.5,-5.5; W19 5.5,-5.5; W20 6.5,-5.5; W21 7.5,-5.5; W22 8.5,-5.5; W23 9.5,-5.5; W24 10.5,-5.5; W25 11.5,-5.5; W26 12.5,-5.5; Y1 -12.5,-6.5; Y2 -11.5,-6.5; Y3 -10.5,-6.5; Y4 -9.5,-6.5; Y5 -8.5,-6.5; Y6 -7.5,-6.5; Y7 -6.5,-6.5; Y8 -5.5,-6.5; Y9 -4.5,-6.5; Y10 -3.5,-6.5; Y11 -2.5,-6.5; Y12 -1.5,-6.5; Y13 -0.5,-6.5; Y14 0.5,-6.5; Y15 1.5,-6.5; Y16 2.5,-6.5; Y17 3.5,-6.5; Y18 4.5,-6.5; Y19 5.5,-6.5; Y20 6.5,-6.5; Y21 7.5,-6.5; Y22 8.5,-6.5; Y23 9.5,-6.5; Y24 10.5,-6.5; Y25 11.5,-6.5; Y26 12.5,-6.5